# Altium schematic symbol library MCU_Parallax.SchLib: 3 symbols
Pins are listed as number, name and electrical type; pins without a type are passive.

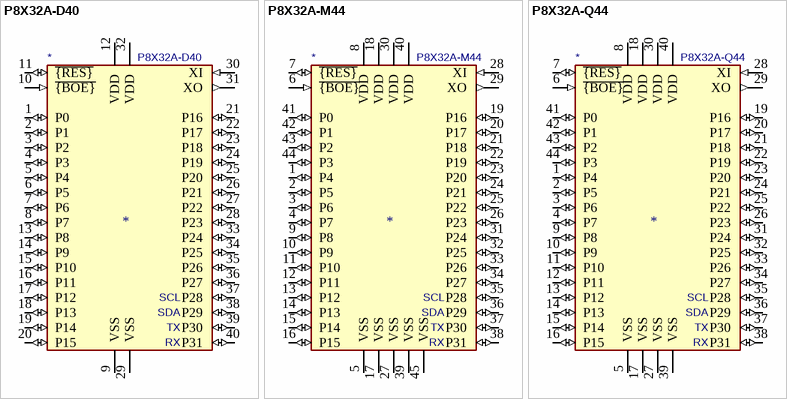
[diagram p0: symbols P8X32A-D40 to P8X32A-Q44]

## P8X32A-D40
designator *  value P8X32A-D40
ki_keywords: microcontroller multicore Parallax Propeller DIP; ki_description: Parallax Propeller 8 core, 32 bit, 80 MHz microcontroller, 3.3VDC, 40-pin DIP; ki_fp_filters: DIP*40*W15.24mm*; Footprint: Package_DIP:DIP-40_W15.24mm; Supplier: https://www.parallax.com/sites/default/files/downloads/P8X32A-Propeller-Datasheet-v1.4.0_0.pdf
footprint DIP-40_W15.24mm
pins: 1 P0 (io), 2 P1 (io), 3 P2 (io), 4 P3 (io), 5 P4 (io), 6 P5 (io), 7 P6 (io), 8 P7 (io), 9 VSS (power), 10 ~{{BOE}} (in), 11 ~{{RES}} (io), 12 VDD (power), 13 P8 (io), 14 P9 (io), 15 P10 (io), 16 P11 (io), 17 P12 (io), 18 P13 (io), 19 P14 (io), 20 P15 (io), 21 P16 (io), 22 P17 (io), 23 P18 (io), 24 P19 (io), 25 P20 (io), 26 P21 (io), 27 P22 (io), 28 P23 (io), 29 VSS (power), 30 XI (in), 31 XO (out), 32 VDD (power), 33 P24 (io), 34 P25 (io), 35 P26 (io), 36 P27 (io), 37 P28 (io), 38 P29 (io), 39 P30 (io), 40 P31 (io)
text: SCL; SDA; TX; RX

## P8X32A-M44
designator *  value P8X32A-M44
ki_keywords: microcontroller multicore Parallax Propeller QFN; ki_description: Parallax Propeller 8 core, 32 bit, 80 MHz microcontroller, 3.3VDC, 44-pin QFN; ki_fp_filters: QFN*44*1EP*9x9mm*P0.65mm*; Footprint: Package_DFN_QFN:QFN-44-1EP_9x9mm_P0.65mm_EP7.5x7.5mm; Supplier: https://www.parallax.com/sites/default/files/downloads/P8X32A-Propeller-Datasheet-v1.4.0_0.pdf
footprint QFN-44-1EP_9x9mm_P0.65mm_EP7.5x7.5mm
pins: 1 P4 (io), 2 P5 (io), 3 P6 (io), 4 P7 (io), 5 VSS (power), 6 ~{{BOE}} (in), 7 ~{{RES}} (io), 8 VDD (power), 9 P8 (io), 10 P9 (io), 11 P10 (io), 12 P11 (io), 13 P12 (io), 14 P13 (io), 15 P14 (io), 16 P15 (io), 17 VSS (power), 18 VDD (power), 19 P16 (io), 20 P17 (io), 21 P18 (io), 22 P19 (io), 23 P20 (io), 24 P21 (io), 25 P22 (io), 26 P23 (io), 27 VSS (power), 28 XI (in), 29 XO (out), 30 VDD (power), 31 P24 (io), 32 P25 (io), 33 P26 (io), 34 P27 (io), 35 P28 (io), 36 P29 (io), 37 P30 (io), 38 P31 (io), 39 VSS (power), 40 VDD (power), 41 P0 (io), 42 P1 (io), 43 P2 (io), 44 P3 (io), 45 VSS (power)
text: SCL; SDA; TX; RX

## P8X32A-Q44
designator *  value P8X32A-Q44
ki_keywords: microcontroller multicore Parallax Propeller LQFP; ki_description: Parallax Propeller 8 core, 32 bit, 80 MHz microcontroller, 3.3VDC, 44-pin LQFP; ki_fp_filters: LQFP*44*10x10mm*P0.8mm*; Footprint: Package_QFP:LQFP-44_10x10mm_P0.8mm; Supplier: https://www.parallax.com/sites/default/files/downloads/P8X32A-Propeller-Datasheet-v1.4.0_0.pdf
footprint LQFP-44_10x10mm_P0.8mm
pins: 1 P4 (io), 2 P5 (io), 3 P6 (io), 4 P7 (io), 5 VSS (power), 6 ~{{BOE}} (in), 7 ~{{RES}} (io), 8 VDD (power), 9 P8 (io), 10 P9 (io), 11 P10 (io), 12 P11 (io), 13 P12 (io), 14 P13 (io), 15 P14 (io), 16 P15 (io), 17 VSS (power), 18 VDD (power), 19 P16 (io), 20 P17 (io), 21 P18 (io), 22 P19 (io), 23 P20 (io), 24 P21 (io), 25 P22 (io), 26 P23 (io), 27 VSS (power), 28 XI (in), 29 XO (out), 30 VDD (power), 31 P24 (io), 32 P25 (io), 33 P26 (io), 34 P27 (io), 35 P28 (io), 36 P29 (io), 37 P30 (io), 38 P31 (io), 39 VSS (power), 40 VDD (power), 41 P0 (io), 42 P1 (io), 43 P2 (io), 44 P3 (io)
text: SCL; SDA; TX; RX